# Altium integrated library ISEPIC Cartridge for C64.IntLib: 10 symbols
Pins are listed as number, name and electrical type; pins without a type are passive.

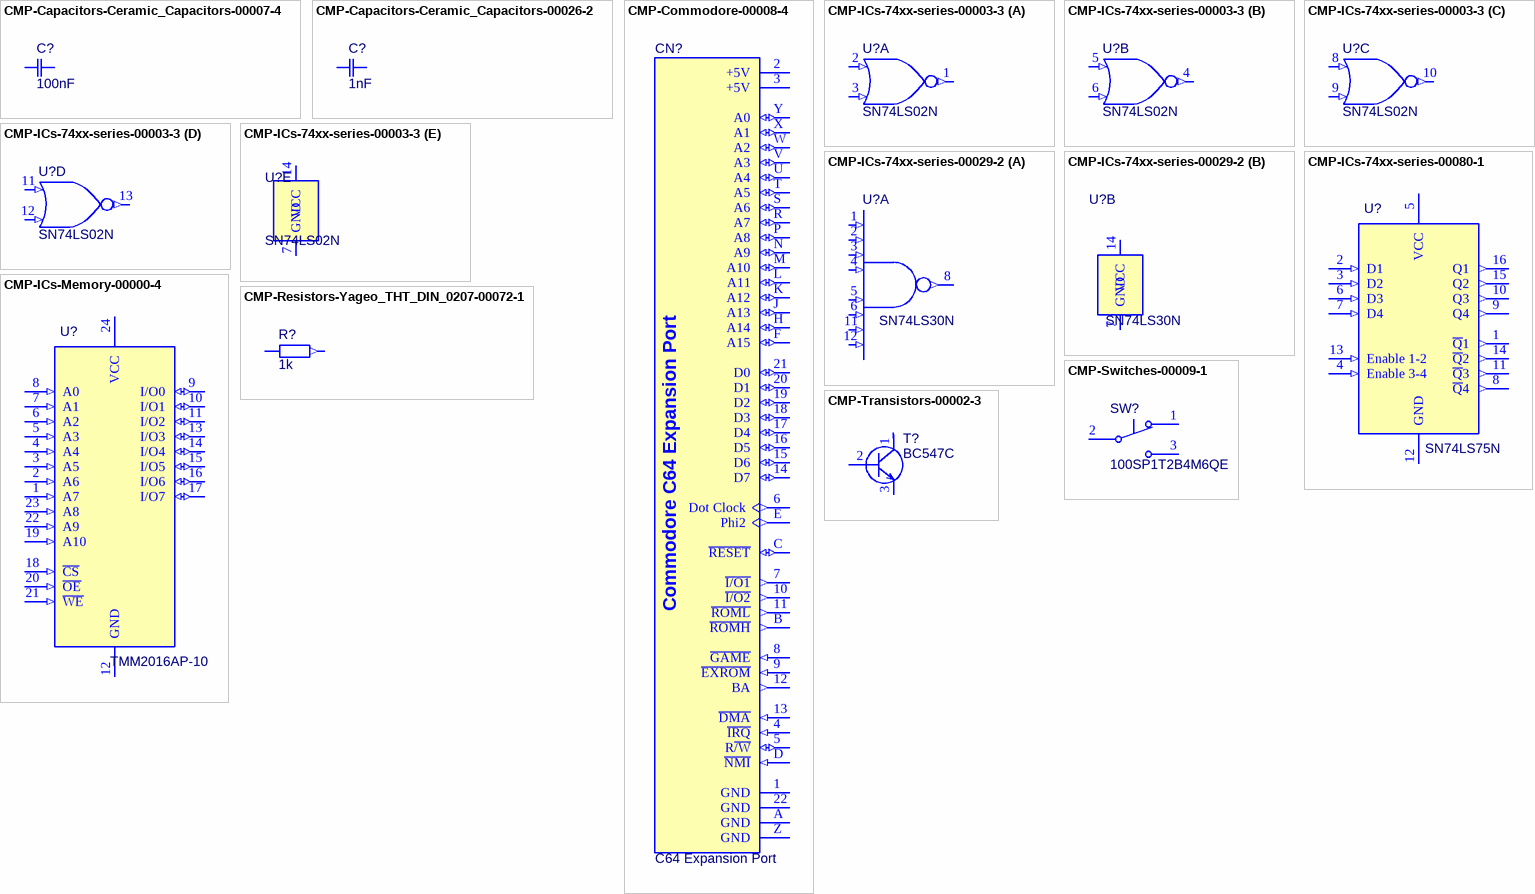
[diagram p0: symbols CMP-Capacitors-Ceramic_Capacitors-00007-4 to CMP-Transistors-00002-3]

## CMP-Capacitors-Ceramic_Capacitors-00007-4
designator C?, comment 100nF
Ceramic Disc Capacitors 100nF -20%~+80% 50V Through Hole,P=2.54mm RoHS; ComponentLink1URL: https://lcsc.com/product-detail/Others_Dersonic-CC1H104ZA1PD3F5O3000_C353909.html; Component Type: Ceramic Capacitors
footprint CAP Disc 100nF P2.54mm D5.5mm T3mm
pins: 1, 2

## CMP-Capacitors-Ceramic_Capacitors-00026-2
designator C?, comment 1nF
CAP CER 1000PF 50V C0G/NP0 RAD; Manufacturer: Vishay BCcomponents; Manufacturer Part Number: K102J15C0GF5TL2; Lead Length: 30mm; Tolerance: 5%; Dielectric: C0G; Lead/Base Style: Straight; Length: 4mm; Height: 4mm; Max Operating Temperature: 125°C; Height - Seated (Max): 0.22inch; Package Quantity: 1; Termination: Radial; Depth: 2.6mm; Packaging: Tape and Reel; Voltage Rating (DC): 50V; Lead Pitch: 0.098inch; Voltage Rating: 50V; Radiation Hardening: No; Min Operating Temperature: -55°C; Mount: Through Hole,PCB; Lead Free: Lead Free; Case/Package: Dipped; Width: 0.098inch; Voltage: 50V; Capacitance: 1nF; Component Type: Ceramic Capacitors
footprint K102J15C0GF5TL2 (1000pF ±5% 50V Ceramic Capacitor C0G, NP0 Radial)
pins: 1, 2

## CMP-Commodore-00008-4
designator CN?, comment C64 Expansion Port  (no BOM)
Expansion Port EDGE Connector for Interface Cards; Component Type: Commodore
footprint C64 Expansion Port EDGE Connector
pins: 1 GND (power), 2 +5V (power), 3 +5V (power), 4 ~{IRQ} (in), 5 R~{/W} (io), 6 Dot Clock (out), 7 ~{I/O1} (out), 8 ~{GAME} (in), 9 ~{EXROM} (in), 10 ~{I/O2} (out), 11 ~{ROML} (out), 12 BA (out), 13 ~{DMA} (in), 14 D7 (io), 15 D6 (io), 16 D5 (io), 17 D4 (io), 18 D3 (io), 19 D2 (io), 20 D1 (io), 21 D0 (io), 22 GND (power), A GND (power), B ~{ROMH} (out), C ~{RESET} (io), D ~{NMI} (in), E Phi2 (out), F A15 (io), H A14 (io), J A13 (io), K A12 (io), L A11 (io), M A10 (io), N A9 (io), P A8 (io), R A7 (io), S A6 (io), T A5 (io), U A4 (io), V A3 (io), W A2 (io), X A1 (io), Y A0 (io), Z GND (power)
text: Commodore C64 Expansion Port

## CMP-ICs-74xx-series-00003-3
designator U?, comment SN74LS02N
IC GATE NOR 4CH 2-INP 14DIP; Manufacturer: Texas Instruments; High Level Output Current: -400uA; Number of Bits: 4; Output Current: 8mA; Min Supply Voltage: 4.75V; Turn-On Delay Time: 15ns; Number of Output Lines: 1; Max Supply Voltage: 5.25V; Number of Inputs: 2; Quiescent Current: 2.8mA; Schmitt Trigger Input: No; Operating Supply Voltage: 5V; Max Operating Temperature: 70°C; Height: 4.57mm; Contact Plating: Gold; Number of Pins: 14; Lead Free: Lead Free; Termination: Through Hole; REACH SVHC: No SVHC; Package Quantity: 25; Propagation Delay: 15ns; Radiation Hardening: No; Number of Gates: 4; Number of Elements: 4; Min Operating Temperature: 0°C; Width: 6.35mm; Number of Outputs: 1; Mount: Through Hole; Number of Input Lines: 2; Case/Package: PDIP; Weight: 0.032734oz; Number of Circuits: 4; Length: 19.3mm; Packaging: Rail/Tube; Low Level Output Current: 8mA; Max Output Current: 8mA; Logic Function: NOR; Manufacturer Part Number: SN74LS02N; Component Type: 74xx-series
footprint SN74LS02N with Socket
footprint SN74LS02N
part A pins: 1 1Y (out), 2 1A (in), 3 1B (in)
part B pins: 4 2Y (out), 5 2A (in), 6 2B (in)
part C pins: 8 3A (in), 9 3B (in), 10 3Y (out)
part D pins: 11 4A (in), 12 4B (in), 13 4Y (out)
part E pins: 7 GND, 14 VCC (power)

## CMP-ICs-74xx-series-00029-2
designator U?, comment SN74LS30N
IC GATE NAND 1CH 8-INP 14DIP; Manufacturer: Texas Instruments; High Level Output Current: -16mA; Low Level Output Current: 400uA; Propagation Delay: 20ns; Number of Elements: 1; Turn-On Delay Time: 22ns; Nominal Supply Current: 100uA; Number of Input Lines: 8; Output Current: 8mA; Max Supply Voltage: 5.25V; Operating Supply Voltage: 5V; Min Supply Voltage: 4.75V; Mount: Through Hole; Weight: 0.032734oz; Case/Package: PDIP; Packaging: Rail/Tube; Contact Plating: Gold; Radiation Hardening: No; Max Operating Temperature: 70°C; Number of Circuits: 1; Number of Gates: 1; Number of Outputs: 1; Logic Function: NAND; Number of Bits: 1; REACH SVHC: No SVHC; Termination: Through Hole; Min Operating Temperature: 0°C; Number of Inputs: 8; Lead Free: Lead Free; Number of Pins: 14; Package Quantity: 25; Max Output Current: 8mA; Number of Output Lines: 1; Manufacturer Part Number: SN74LS30N; Component Type: 74xx-series
footprint SN74LS30N with Socket
footprint SN74LS30N
part A pins: 1 A (in), 2 B (in), 3 C (in), 4 D (in), 5 E (in), 6 F (in), 8 1Y (out), 9 N/C hidden, 10 N/C hidden, 11 F (in), 12 H (in), 13 N/C hidden
part B pins: 7 GND, 14 VCC (power)

## CMP-ICs-74xx-series-00080-1
designator U?, comment SN74LS75N
Latch Transparent 4-CH D-Type 16-Pin PDIP Tube; Manufacturer: Texas Instruments; Operating Supply Voltage: 5V; Number of Bits: 4; Logic Function: D-Type,Latch; Propagation Delay: 27ns; Polarity: Non-Inverting; Turn-On Delay Time: 9ns; Quiescent Current: 6.3mA; Min Supply Voltage: 4.75V; Number of Circuits: 2; Low Level Output Current: 8mA; Nominal Supply Current: 12mA; High Level Output Current: -400uA; Max Supply Voltage: 5.25V; REACH SVHC: No SVHC; Package Quantity: 25; Lead Free: Contains Lead; Length: 19.3mm; Case/Package: PDIP; Height: 4.57mm; Number of Output Lines: 4; Min Operating Temperature: 0°C; Max Operating Temperature: 70°C; Contact Plating: Gold; Packaging: Rail/Tube; Independent Circuits: 4; Number of Elements: 2; Number of Pins: 16; Number of Input Lines: 4; Weight: 0.03357oz; Output Current: 8mA; Mount: Through Hole; Width: 6.35mm; Radiation Hardening: No; Manufacturer Part Number: SN74LS75N; Component Type: 74xx-series
footprint SN74LS75N with Socket (Quad Latch)
footprint SN74LS75N (Quad Latch)
pins: 1 ~{Q}1 (out), 2 D1 (in), 3 D2 (in), 4 Enable 3-4 (in), 5 VCC (power), 6 D3 (in), 7 D4 (in), 8 ~{Q}4 (out), 9 Q4 (out), 10 Q3 (out), 11 ~{Q}3 (out), 12 GND (power), 13 Enable 1-2 (in), 14 ~{Q}2 (out), 15 Q2 (out), 16 Q1 (out)

## CMP-ICs-Memory-00000-4
designator U?, comment TMM2016AP-10
Integrated Circuit Memory 2016/TMM2016AP10 TOSHIBA Static RAM memory prog. volatille KX8=2; Manufacturer: Toshiba; Manufacturer Part Number: TMM2016AP-10; Component Type: Memorys
footprint Toshiba TMM2016AP-10 - with Socket
footprint Toshiba TMM2016AP-10
pins: 1 A7 (in), 2 A6 (in), 3 A5 (in), 4 A4 (in), 5 A3 (in), 6 A2 (in), 7 A1 (in), 8 A0 (in), 9 I/O0 (io), 10 I/O1 (io), 11 I/O2 (io), 12 GND, 13 I/O3 (io), 14 I/O4 (io), 15 I/O5 (io), 16 I/O6 (io), 17 I/O7 (io), 18 ~{CS} (in), 19 A10 (in), 20 ~{OE} (in), 21 ~{WE} (in), 22 A9 (in), 23 A8 (in), 24 VCC (power)

## CMP-Resistors-Yageo_THT_DIN_0207-00072-1
designator R?, comment 1k
RES 1K OHM 1/4W 5% AXIAL; Manufacturer: Yageo; Manufacturer Part Number: CFR-25JB-52-1K; Max Power Dissipation: 250mW; Resistance: 1kR; Temperature Coefficient: 500ppm/°C; Composition: Carbon Film; Lead Free: Lead Free; Case/Package: Axial; Packaging: Bulk; Length: 0.248inch; Min Operating Temperature: -55°C; Tolerance: 5%; Number of Terminations: 2; Package Quantity: 200; Max Operating Temperature: 155°C; Power Rating: 250mW; Component Type: Yageo THT DIN 0207
footprint 1,0 kOhm R Axial DIN0207 L6.3mm D2.5mm P7.62mm Horizontal
footprint 1,0 kOhm R Axial DIN0207 L6.3mm D2.5mm P10.16mm Horizontal
footprint 1,0 kOhm R Axial DIN0207 L6.3mm D2.5mm P15.24mm Horizontal
footprint 1,0 kOhm R Axial DIN0207 L6.3mm D2.5mm P2.54mm Vertical
footprint 1,0 kOhm R Axial DIN0207 L6.3mm D2.5mm P5.08mm Vertical
pins: 1, 2 (out)

## CMP-Switches-00009-1
designator SW?, comment 100SP1T2B4M6QE
SWITCH TOGGLE SPDT 5A 120V; Manufacturer: E-Switch; Switch Function: On-On; Actuator Material: Brass,Chrome; Contact Resistance: 100mR; Actuator Color: Chrome; Max Voltage Rating (DC): 28V; Actuator Length: 6.46mm; Actuator Type: Standard Round; Max Voltage Rating (AC): 250V; Electrical Life: 40000Cycles; Illumination Type: Non-Illuminated,Illuminated; Termination: PC Pin; Packaging: Bulk; RoHS Compliant: Yes; Mount: Through Hole,Brackets; Length: 12.7mm; Max Operating Temperature: 85°C; Contact Material: Silver,Copper Alloy; Housing Material: Stainless Steel; Orientation: Right Angle; Current Rating: 5A; Contact Plating: Silver; Series: 100; Voltage Rating (AC): 120V; Throw Configuration: SPDT; Min Operating Temperature: -30°C; Width: 6.86mm; Voltage Rating (DC): 28V; Lead Free: Lead Free; Package Quantity: 1; Manufacturer Part Number: 100SP1T2B4M6QE; Component Type: Switches
footprint Toogle Switch SPDT 100SP1T2B4M6QE (Toggle Switch SPDT Through Hole, Right Angle)
pins: 1, 2, 3

## CMP-Transistors-00002-3
designator T?, comment BC547C
BC547C Diotec Bipolar NPN Transistor 45V; Collector Base Voltage (VCBO): 50V; Frequency: 300MHz; Power Dissipation: 500mW; Number of Elements: 1; Emitter Base Voltage (VEBO): 5V; Collector Emitter Saturation Voltage: 600mV; Max Operating Temperature: 150°C; Number of Channels: 1; Number of Pins: 3; Polarity: NPN; Collector Emitter Voltage (VCEO): 45V; Mount: Through Hole; Packaging: Tape and Reel; Min Operating Temperature: -55°C; Case/Package: TO-92; Manufacturer: Diotec; Manufacturer Part Number: BC547C; Component Type: Transistors
footprint BC547C
pins: 1, 2, 3